# Altium footprint library Moduły.PcbLib: 22 footprints (part 2 of 2)
Each footprint in its own frame and in the unit in brackets; x right, y up, seen from the top. Pads: shape width x height; smd on the part's side, far side on the other; paste and mask are expansions set on the pad; w line width, h text height; cw(c..) or ccw(c..) is an arc to the next point about the centre after c.
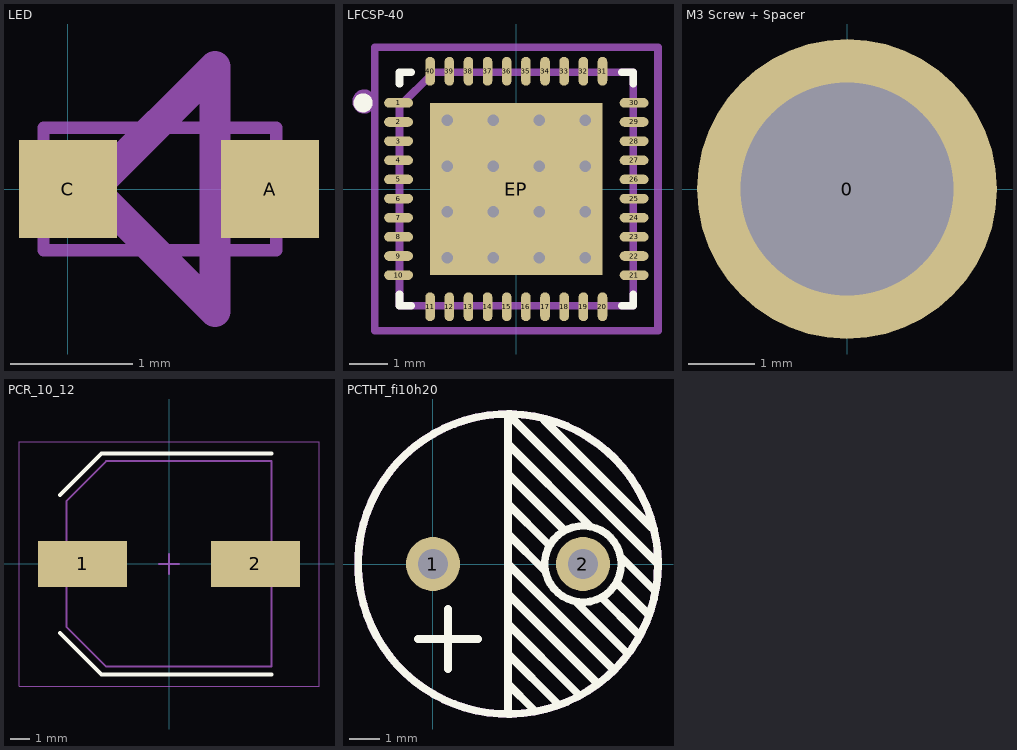
[diagram p1: the footprints below, top view; thin cyan lines are the x and y axes]

## LED [mm] "SMD LED"
height 2
pads (2):
  rect 0.8x0.8 smd: A(1.65,0) C(0,0)
Mechanical 13:
  lines w0.1: -0.2,-0.5 1.7,-0.5 1.7,0.5 -0.2,0.5 -0.2,-0.5
Mechanical 15:
  lines w0.254: 0.2,0 1.2,-1 1.2,1 0.3,0.1 0.2,0
3D body: height 0.45, standoff 0, extent -0.2,-0.4 1.9,0.4
3D body: height 0.75, standoff 0, extent 0.2,-0.5 1.5,0.5

## LFCSP-40 [mm] "QFN, 40-Leads, Body 6,1x6,1mm (max), Pitch 0,50mm, IPC Medium Density"
height 0.8
pads (41):
  oval 0.75x0.25 smd: 1(-3.075,2.25) 2(-3.075,1.75) 3(-3.075,1.25) 4(-3.075,0.75) 5(-3.075,0.25) 6(-3.075,-0.25) 7(-3.075,-0.75) 8(-3.075,-1.25) 9(-3.075,-1.75) 10(-3.075,-2.25) 21(3.075,-2.25) 22(3.075,-1.75) 23(3.075,-1.25) 24(3.075,-0.75) 25(3.075,-0.25) 26(3.075,0.25) 27(3.075,0.75) 28(3.075,1.25) 29(3.075,1.75) 30(3.075,2.25)
  oval 0.25x0.75 smd: 11(-2.25,-3.075) 12(-1.75,-3.075) 13(-1.25,-3.075) 14(-0.75,-3.075) 15(-0.25,-3.075) 16(0.25,-3.075) 17(0.75,-3.075) 18(1.25,-3.075) 19(1.75,-3.075) 20(2.25,-3.075) 31(2.25,3.075) 32(1.75,3.075) 33(1.25,3.075) 34(0.75,3.075) 35(0.25,3.075) 36(-0.25,3.075) 37(-0.75,3.075) 38(-1.25,3.075) 39(-1.75,3.075) 40(-2.25,3.075)
  rect 4.5x4.5 smd: EP(0,0)
via 1.8,-1.8 diameter 0.7 hole 0.3
via 0.6,-1.8 diameter 0.7 hole 0.3
via -0.6,-1.8 diameter 0.7 hole 0.3
via -1.8,-1.8 diameter 0.7 hole 0.3
via 1.8,-0.6 diameter 0.7 hole 0.3
via 0.6,-0.6 diameter 0.7 hole 0.3
via -0.6,-0.6 diameter 0.7 hole 0.3
via -1.8,-0.6 diameter 0.7 hole 0.3
via 1.8,0.6 diameter 0.7 hole 0.3
via 0.6,0.6 diameter 0.7 hole 0.3
via -0.6,0.6 diameter 0.7 hole 0.3
via -1.8,0.6 diameter 0.7 hole 0.3
via 1.8,1.8 diameter 0.7 hole 0.3
via 0.6,1.8 diameter 0.7 hole 0.3
via -0.6,1.8 diameter 0.7 hole 0.3
via -1.8,1.8 diameter 0.7 hole 0.3
Top Overlay:
  circle w0.25: c-4,2.25 r0.125
  lines w0.2: -3.05,-2.75 -3.05,-3.05 -2.75,-3.05 ; -3.05,2.75 -3.05,3.05 -2.75,3.05 ; 2.75,-3.05 3.05,-3.05 3.05,-2.75 ; 2.75,3.05 3.05,3.05 3.05,2.75
Mechanical 13:
  circle w0.3: c-3.972,2.286 r0.162
  lines w0.2: -3.05,-3.05 -3.05,2.157 -2.157,3.05 3.05,3.05 3.05,-3.05 -3.05,-3.05
  text ".Designator" at -1.905,-0.381 h1.5
Mechanical 15:
  lines w0.2: -0.5,0 0.5,0 ; 0,-0.5 0,0.5 ; -3.7,-3.7 3.7,-3.7 3.7,3.7 -3.7,3.7 -3.7,-3.7
3D body "LFCSP-40.STEP": height 1.01, standoff -0.08, extent -3.01,-3.048 3.01,2.972

## M3 Screw + Spacer [mm] "M3mmx10mm Screw + 10mm Spacer"
height 10
pads (1):
  round 4.5 hole 3.2: 0(0,0)
3D body "M3x10 distancer.step": height -1, standoff -11, extent -2.5,-2.874 2.5,2.9
3D body "NORDEX-DJS-M3-10.step": height 1.65, standoff -7.65, extent -1.9,-1.9 1.9,1.9

## PCBComponent_1 - duplicate [mm]

## PCR_10_12 [mm] "Aluminum Electrolytic Capacitor, Body 10,30x10,30x12,70mm, IPC Low Density"
height 12.7
pads (2):
  rect 4.5x2.35 smd: 1(-4.375,0) 2(4.375,0)
Top Overlay:
  lines w0.2: -5.515,-3.502 -3.429,-5.588 5.2,-5.588 ; -5.515,3.502 -3.429,5.588 5.2,5.588
Mechanical 13:
  lines w0.1: -5.2,-3.188 -5.2,3.187 -3.18,5.207 5.2,5.207 5.2,-5.2 -3.187,-5.2 -5.2,-3.188
Mechanical 15:
  lines w0.05: -7.6,-6.2 7.6,-6.2 7.6,6.2 -7.6,6.2 -7.6,-6.2
  lines w0.1: -0.5,0 0.5,0 ; 0,-0.5 0,0.5
3D body: height 10.2, standoff 0.1, extent -5,-5.003 5,4.997
3D body: height 4.24, standoff 0, extent -5.2,-5.2 5.2,5.2

## PCTHT_fi10h20 [mm] "Electrolytic capacitor fi10mm h20mm"
height 20
pads (2):
  round 1.8 hole 1: 1(0,0) 2(5,0)
Top Overlay:
  circle w0.254: c5,0 r1.273
  circle w0.254: c2.5,0 r5
  lines w0.254: -0.5,-2.5 1.5,-2.5 ; 0.5,-3.5 0.5,-1.5 ; 2.5,-5 2.5,5 7.5,0 ; 2.5,-4 3.363,-4.862 ; 2.5,-3 4.137,-4.637 ; 2.5,-2 4.787,-4.287 ; 2.5,-1 5.45,-3.95 ; 2.5,0 6,-3.5 ; 2.5,1 3.725,-0.225 ; 2.5,2 3.838,0.662 ; 2.5,3 4.35,1.15 ; 2.5,4 5.238,1.262 ; 3.7,4.8 7.3,1.2 ; 4.775,-1.275 6.463,-2.963 ; 5.625,-1.125 6.8,-2.3 ; 6.15,-0.65 7.2,-1.7 ; 6.262,0.238 7.388,-0.888
Mechanical 15:
  circle w0.254: c2.5,0 r5
3D body: height 21, standoff 1, extent -2.5,-5 7.5,5